# EAGLE library part STM32431RCI (library ICs)
Ultra-low-power Arm® Cortex®-M4 32-bit MCU+FPU, 100DMIPS, up to 256KB Flash, 64KB SRAM
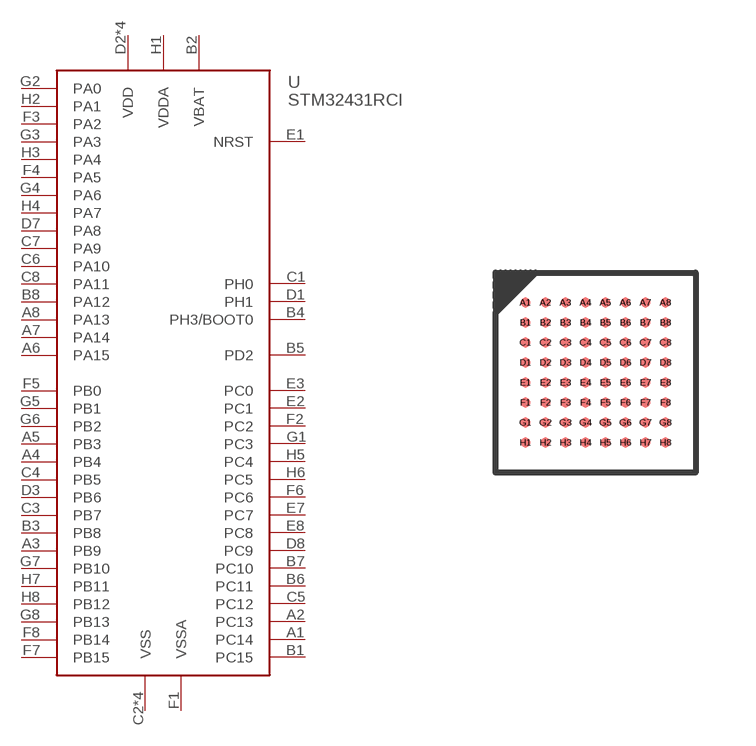
[diagram p256: symbol with the pads of UFBGA64; footprint UFBGA64]

Designator prefix U

## STM32431RCI (DIGIKEY: 497-16838-ND; HEIGHT: 1; PRICE_PER: 4.43; VALUE: STM32L431RCI)  [UFBGA64]
A1  PC14
A2  PC13
A3  PB9
A4  PB4
A5  PB3
A6  PA15
A7  PA14
A8  PA13
B1  PC15
B2  VBAT
B3  PB8
B4  PH3/BOOT0
B5  PD2
B6  PC11
B7  PC10
B8  PA12
C1  PH0
C2  VSS
C3  PB7
C4  PB5
C5  PC12
C6  PA10
C7  PA9
C8  PA11
D1  PH1
D2  VDD
D3  PB6
D4  VSS
D5  VSS
D6  VSS
D7  PA8
D8  PC9
E1  NRST
E2  PC1
E3  PC0
E4  VDD
E5  VDD
E6  VDD
E7  PC7
E8  PC8
F1  VSSA
F2  PC2
F3  PA2
F4  PA5
F5  PB0
F6  PC6
F7  PB15
F8  PB14
G1  PC3
G2  PA0
G3  PA3
G4  PA6
G5  PB1
G6  PB2
G7  PB10
G8  PB13
H1  VDDA
H2  PA1
H3  PA4
H4  PA7
H5  PC4
H6  PC5
H7  PB11
H8  PB12

## Footprint UFBGA64 (pad centres in mm)
smd 0.25 x 0.25: A1 -1.75,1.75; A2 -1.25,1.75; A3 -0.75,1.75; A4 -0.25,1.75; A5 0.25,1.75; A6 0.75,1.75; A7 1.25,1.75; A8 1.75,1.75; B1 -1.75,1.25; B2 -1.25,1.25; B3 -0.75,1.25; B4 -0.25,1.25; B5 0.25,1.25; B6 0.75,1.25; B7 1.25,1.25; B8 1.75,1.25; C1 -1.75,0.75; C2 -1.25,0.75; C3 -0.75,0.75; C4 -0.25,0.75; C5 0.25,0.75; C6 0.75,0.75; C7 1.25,0.75; C8 1.75,0.75; D1 -1.75,0.25; D2 -1.25,0.25; D3 -0.75,0.25; D4 -0.25,0.25; D5 0.25,0.25; D6 0.75,0.25; D7 1.25,0.25; D8 1.75,0.25; E1 -1.75,-0.25; E2 -1.25,-0.25; E3 -0.75,-0.25; E4 -0.25,-0.25; E5 0.25,-0.25; E6 0.75,-0.25; E7 1.25,-0.25; E8 1.75,-0.25; F1 -1.75,-0.75; F2 -1.25,-0.75; F3 -0.75,-0.75; F4 -0.25,-0.75; F5 0.25,-0.75; F6 0.75,-0.75; F7 1.25,-0.75; F8 1.75,-0.75; G1 -1.75,-1.25; G2 -1.25,-1.25; G3 -0.75,-1.25; G4 -0.25,-1.25; G5 0.25,-1.25; G6 0.75,-1.25; G7 1.25,-1.25; G8 1.75,-1.25; H1 -1.75,-1.75; H2 -1.25,-1.75; H3 -0.75,-1.75; H4 -0.25,-1.75; H5 0.25,-1.75; H6 0.75,-1.75; H7 1.25,-1.75; H8 1.75,-1.75